# EAGLE library part COMPORT-6PIN-OLD (library pinconn)
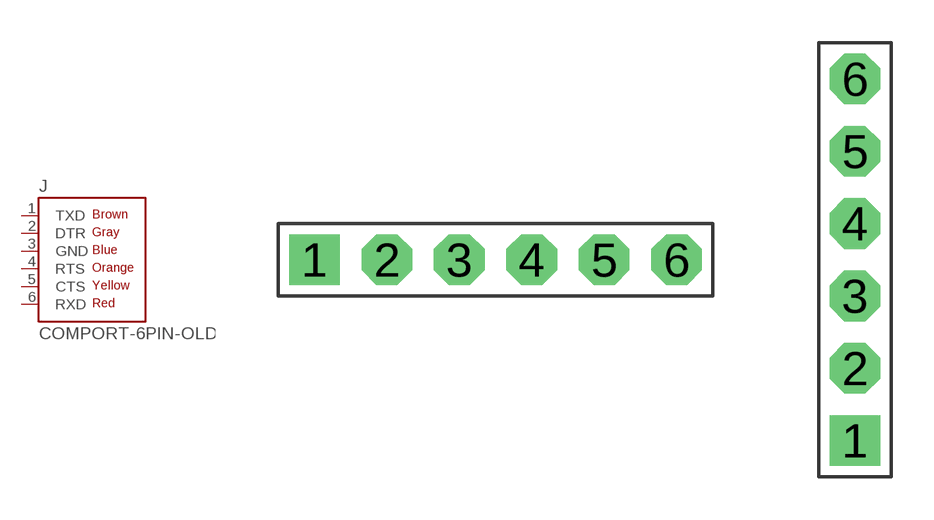
[diagram p1: symbol with the pads of CONN-6P; footprints CONN-6P, RS232-6PIN-OLD]

Designator prefix J

## COMPORT-6PIN-OLD-6P  [CONN-6P]
1  TXD  pas
2  DTR  pas
3  GND  pas
4  RTS  pas
5  CTS  pas
6  RXD  pas

## COMPORT-6PIN-OLD  [RS232-6PIN-OLD]
Pads as for CONN-6P

## Footprint CONN-6P (pad centres in mm)
drill 0.9 pad 1.778 square: 1 -6.35,0
drill 0.9 pad 1.778 octagon: 2 -3.81,0; 3 -1.27,0; 4 1.27,0; 5 3.81,0; 6 6.35,0

## Footprint RS232-6PIN-OLD (pad centres in mm)
drill 0.9 pad 1.778 square: 1 0,0
drill 0.9 pad 1.778 octagon: 2 0,2.54; 3 0,5.08; 4 0,7.62; 5 0,10.16; 6 0,12.7